# Altium integrated library 0039281083.IntLib: 1 symbol
Pins are listed as number, name and electrical type; pins without a type are passive.

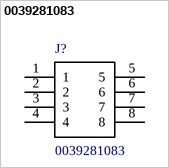
[diagram p0: symbol 0039281083]

## 0039281083
designator J?
Conn Power HDR 8 POS 4.2mm Solder ST Thru-Hole 8 Terminal 1 Port Mini-Fit Jr??? Bag; MF: Molex; SnapEDA_Link: https://www.snapeda.com/parts/0039281083/Molex/view-part/?ref=snap; Availability: Unavailable; Package: None; Price: None; MP: 0039281083; Value: *
footprint *MOLEX_0039281083
pins: 1, 2, 3, 4, 5, 6, 7, 8